# Altium footprint library ANALOG.PcbLib: 11 footprints
Each footprint in its own frame and in the unit in brackets; x right, y up, seen from the top. Pads: shape width x height; smd on the part's side, far side on the other; paste and mask are expansions set on the pad; w line width, h text height; cw(c..) or ccw(c..) is an arc to the next point about the centre after c.
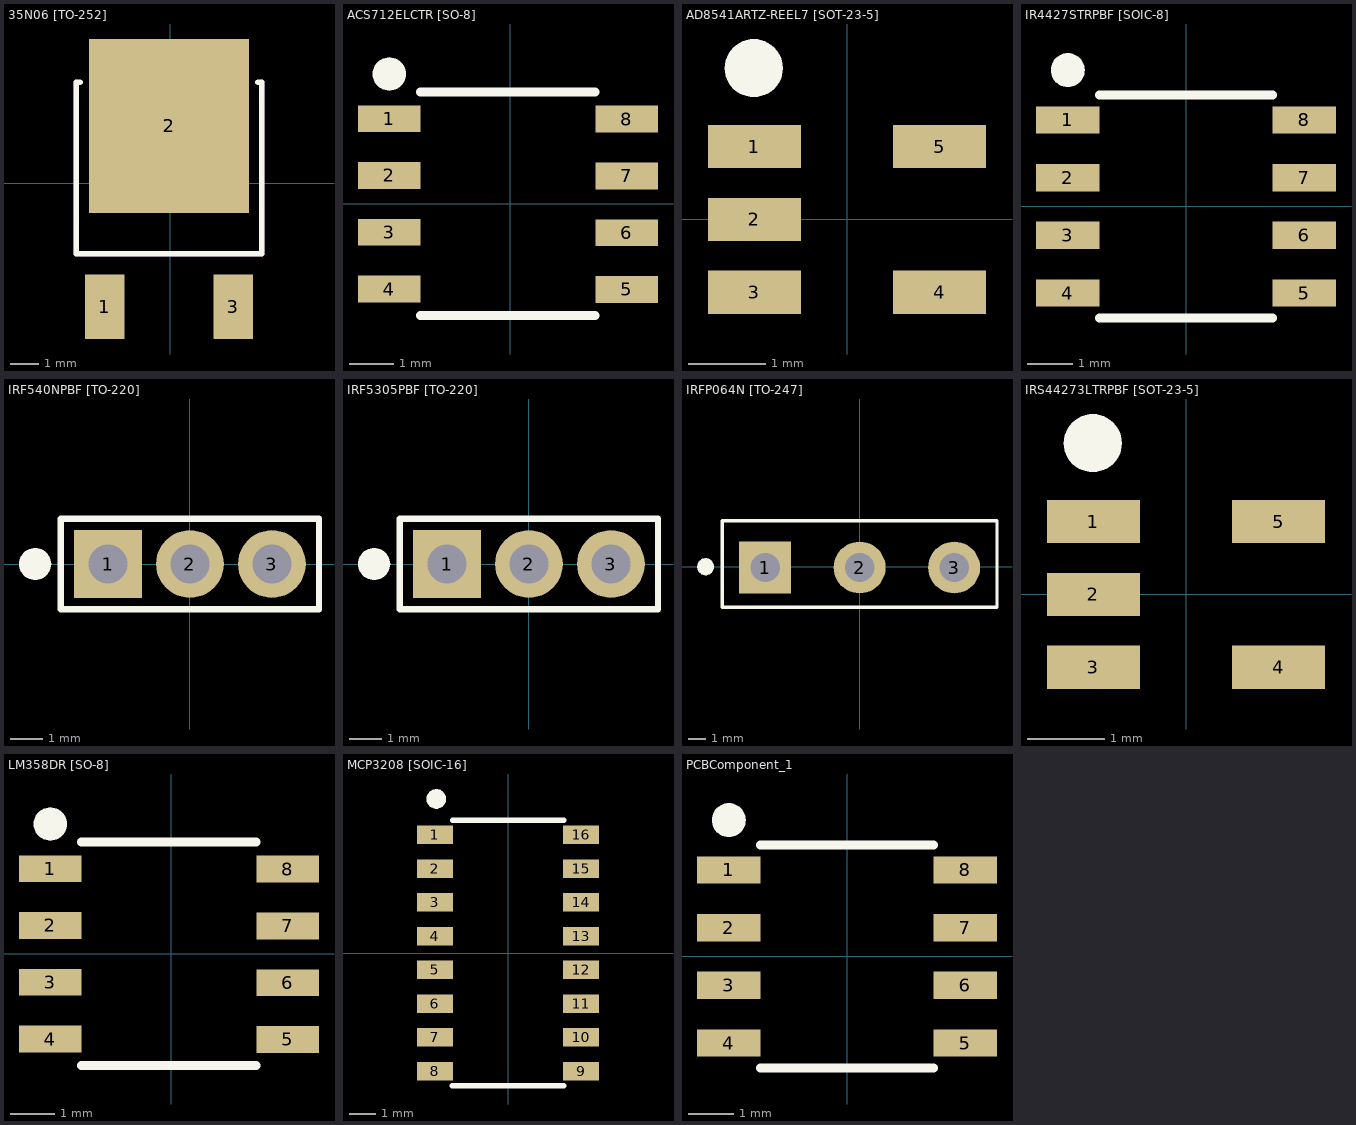
[diagram p0: the footprints below, top view; thin cyan lines are the x and y axes]

## 35N06 [TO-252] [mm]
height 2.4
pads (3):
  rect 1.4x2.29 smd: 1(-2.335,-4.39) 3(2.235,-4.39)
  rect 5.69x6.18 smd paste-4: 2(-0.05,2.045)
Top Overlay:
  lines w0.2: -3.215,3.595 -3.35,3.595 -3.35,-2.505 3.25,-2.505 3.25,3.595 3.115,3.595
Mechanical 13:
  lines w0.2: -3.35,3.595 -3.35,-2.505 3.25,-2.505 3.25,3.595
3D body "step_temp.STEP": height 2.38, standoff 0, extent -3.335,-5.15 3.235,4.75

## ACS712ELCTR [SO-8] [mm]
pads (9):
  rect 1.4x0.6 smd: 1(-2.7,1.9) 2(-2.7,0.63) 3(-2.7,-0.64) 4(-2.7,-1.91) 5(2.61,-1.92) 6(2.61,-0.65) 7(2.61,0.62) 8(2.61,1.89)
  round 0.75 on Top Overlay: ""(-2.7,2.9)
Top Overlay:
  lines w0.2: -2,-2.5 1.9,-2.5 ; -2,2.5 1.9,2.5
3D body "LM358DT_SO_8.STEP": height 1.75, standoff 0, extent -3,-2.45 3,2.45

## AD8541ARTZ-REEL7 [SOT-23-5] [mil]
pads (6):
  rect 47.24x22 smd: 1(-47,37) 2(-47,0) 3(-47,-37) 4(47,-37) 5(47,37)
  round 29.53 on Top Overlay: ""(-47.24,76.77)
3D body "AD8541ARTZ-REEL7_SOT_23_5.STEP": height 57.09, standoff 0, extent -55.12,-57.09 55.12,57.09

## IR4427STRPBF [SOIC-8] [mm]
pads (9):
  rect 1.4x0.6 smd: 1(-2.6,1.905) 2(-2.6,0.635) 3(-2.6,-0.635) 4(-2.6,-1.905) 5(2.6,-1.905) 6(2.6,-0.635) 7(2.6,0.635) 8(2.6,1.905)
  round 0.75 on Top Overlay: ""(-2.6,3)
Top Overlay:
  lines w0.2: -1.9,-2.45 1.9,-2.45 ; -1.9,2.45 1.9,2.45
3D body "IR4427STRPBF_SOIC_8.STEP": height 1.75, standoff 0, extent -3,-2.5 3,2.5

## IRF540NPBF [TO-220] [mm]
pads (4):
  rect 2.1x2.1 hole 1.2: 1(-2.54,0)
  round 2.1 hole 1.2: 2(0,0) 3(2.54,0)
  round 1 on Top Overlay: ""(-4.8,0)
Top Overlay:
  lines w0.2: -4,-1.4 4,-1.4 4,1.4 -4,1.4 -4,-1.4
3D body "IRF540NPBF.STEP": height 19.3, standoff -10.03, extent -5.207,-1.37 5.207,3.075

## IRF5305PBF [TO-220] [mm]
pads (4):
  rect 2.1x2.1 hole 1.2: 1(-2.54,0)
  round 2.1 hole 1.2: 2(0,0) 3(2.54,0)
  round 1 on Top Overlay: ""(-4.8,0)
Top Overlay:
  lines w0.2: -4,-1.4 4,-1.4 4,1.4 -4,1.4 -4,-1.4
3D body "IRF5305PBF_TO220.STEP": height 19.3, standoff -10.03, extent -5.207,-1.4 5.207,3.045

## IRFP064N [TO-247] [mm]
pads (4):
  rect 3x3 hole 1.7: 1(-5.46,-0.045)
  round 3 hole 1.7: 2(0,-0.045) 3(5.46,-0.045)
  round 1 on Top Overlay: ""(-8.9,0)
Top Overlay:
  lines w0.2: -7.935,-2.34 7.935,-2.34 7.935,2.655 -7.935,2.655 -7.935,-2.34
3D body "step_temp.STEP": height 25.1, standoff -10, extent -7.8,-2.34 7.8,2.66

## IRS44273LTRPBF [SOT-23-5] [mil]
pads (6):
  rect 47.24x22 smd: 1(-47,37) 2(-47,0) 3(-47,-37) 4(47,-37) 5(47,37)
  round 29.53 on Top Overlay: ""(-47.24,76.77)
3D body "IRS44273LTRPBF_SOT_23_5.STEP": height 57.09, standoff 0, extent -55.12,-57.09 55.12,57.09

## LM358DR [SO-8] [mm]
pads (9):
  rect 1.4x0.6 smd: 1(-2.7,1.9) 2(-2.7,0.63) 3(-2.7,-0.64) 4(-2.7,-1.91) 5(2.61,-1.92) 6(2.61,-0.65) 7(2.61,0.62) 8(2.61,1.89)
  round 0.75 on Top Overlay: ""(-2.7,2.9)
Top Overlay:
  lines w0.2: -2,-2.5 1.9,-2.5 ; -2,2.5 1.9,2.5
3D body "LM358DT_SO_8.STEP": height 1.75, standoff 0, extent -3,-2.45 3,2.45

## MCP3208 [SOIC-16] [mm]
pads (17):
  rect 1.35x0.7 smd: 1(-2.75,4.445) 2(-2.75,3.175) 3(-2.75,1.905) 4(-2.75,0.635) 5(-2.75,-0.635) 6(-2.75,-1.905) 7(-2.75,-3.175) 8(-2.75,-4.445) 9(2.75,-4.445) 10(2.75,-3.175) 11(2.75,-1.905) 12(2.75,-0.635) 13(2.75,0.635) 14(2.75,1.905) 15(2.75,3.175) 16(2.75,4.445)
  round 0.75 on Top Overlay: ""(-2.7,5.8)
Top Overlay:
  lines w0.2: -2.1,-5 2.1,-5 ; -2.075,5 2.1,5
3D body "Ch340G_SOP_16.STEP": height 1.8, standoff 0, extent -3,-5 3,5
3D body "step_temp.STEP": height 1.8, standoff 0, extent -3,-5 3,5

## PCBComponent_1 [mm]
pads (9):
  rect 1.4x0.6 smd: 1(-2.6,1.905) 2(-2.6,0.635) 3(-2.6,-0.635) 4(-2.6,-1.905) 5(2.6,-1.905) 6(2.6,-0.635) 7(2.6,0.635) 8(2.6,1.905)
  round 0.75 on Top Overlay: ""(-2.6,3)
Top Overlay:
  lines w0.2: -1.9,-2.45 1.9,-2.45 ; -1.9,2.45 1.9,2.45